# EAGLE library part BO-BMP280 (library FaBo-Mems)
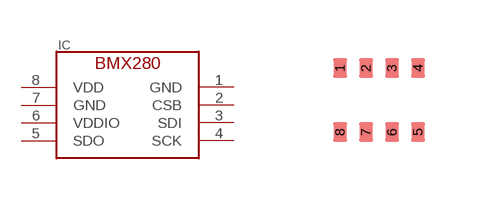
[diagram p19: symbol with the pads of BOSCH-BMP280; footprint BOSCH-BMP280]

Designator prefix IC

## BO-BMP280  [BOSCH-BMP280]
1  GND  sup
2  CSB  in
3  SDI
4  SCK  in
5  SDO
6  VDDIO  pwr
7  GND  sup
8  VDD  pwr

## Footprint BOSCH-BMP280 (pad centres in mm)
smd 0.35 x 0.5: 1 -0.975,0.8; 2 -0.325,0.8; 3 0.325,0.8; 4 0.975,0.8; 5 0.975,-0.8; 6 0.325,-0.8; 7 -0.325,-0.8; 8 -0.975,-0.8